# Altium footprint library BM10B-SURS-TF.PcbLib: 1 footprints
Each footprint in its own frame and in the unit in brackets; x right, y up, seen from the top. Pads: shape width x height; smd on the part's side, far side on the other; paste and mask are expansions set on the pad; w line width, h text height; cw(c..) or ccw(c..) is an arc to the next point about the centre after c.
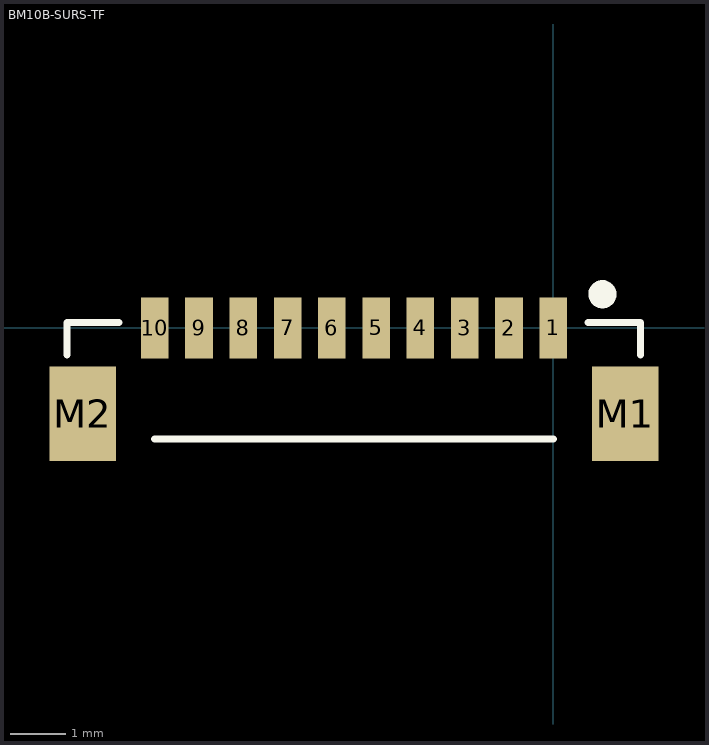
[diagram p0: the footprint, top view; thin cyan lines are the x and y axes]

## BM10B-SURS-TF [mm]
pads (12):
  rect 0.5x1.1 smd: 1(0,0) 2(-0.8,0) 3(-1.6,0) 4(-2.4,0) 5(-3.2,0) 6(-4,0) 7(-4.8,0) 8(-5.6,0) 9(-6.4,0) 10(-7.2,0)
  rect 1.2x1.7 smd: M1(1.3,-1.55) M2(-8.5,-1.55)
Top Overlay:
  lines w0.13: -8.788,-0.483 -8.788,0.1 -7.849,0.1 ; -7.2,-2.007 0,-2.007 ; 0.635,0.1 1.575,0.1 1.575,-0.483
  lines w0.254: 1.006,0.66 ccw(c0.889,0.61) 1.008,0.653
3D body "BM10B-SURS-TF.STEP": height 2.7, standoff -0.05, extent -8.707,-1.93 1.493,0.32